# Altium schematic symbol library capacitors.SchLib: 28 symbols
Pins are listed as number, name and electrical type; pins without a type are passive.

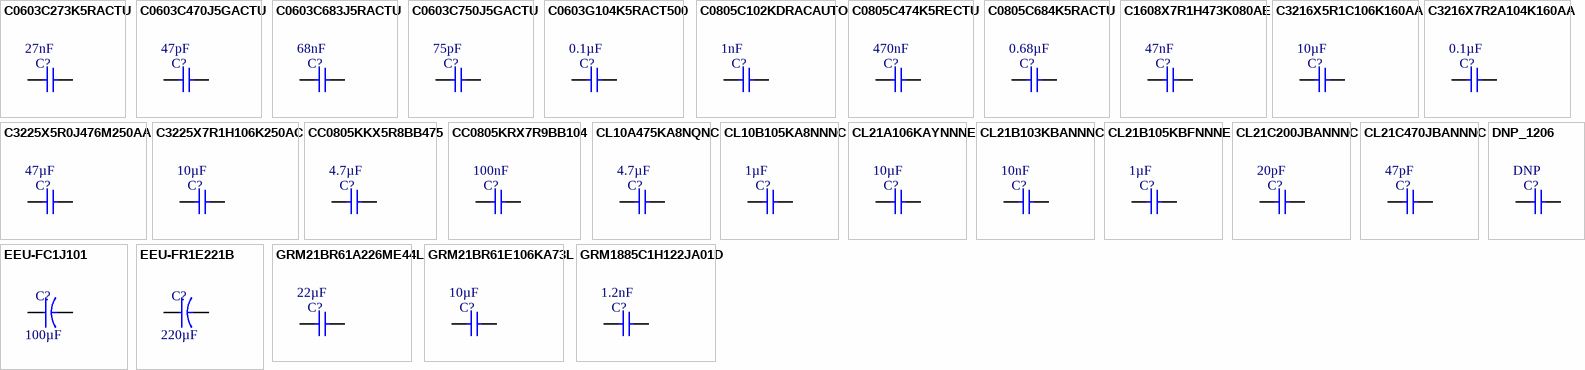
[diagram p0: symbols C0603C273K5RACTU to GRM1885C1H122JA01D]

## C0603C273K5RACTU
designator C?  value 27nF  (hidden comment: *)
Ceramic Capacitor, Multilayer, Ceramic, 50V, 10% +Tol, 10% -Tol, X7R, 15% TC, 0.027uF, Surface Mount, 0603; Manufacturer: KEMET; Manufacturer Part Number: C0603C273K5RACTU; Supplier: DigiKey; Supplier Part Number: 399-C0603C273K5RACTUCT-ND; Package/Case: 0603 (1608 Metric)
footprint CAPC1608 (SMD 0603 (1608 Metric))
pins: 1, 2

## C0603C470J5GACTU
designator C?  value 47pF  (hidden comment: *)
Ceramic Capacitor, Multilayer, Ceramic, 50V, 5% +Tol, 5% -Tol, C0G, 30ppm/Cel TC, 0.000047uF, Surface Mount, 0603; Manufacturer: KEMET; Manufacturer Part Number: C0603C470J5GACTU; Supplier: DigiKey; Supplier Part Number: 399-C0603C470J5GACTUCT-ND; Package/Case: 0603 (1608 Metric)
footprint CAPC1608 (SMD 0603 (1608 Metric))
pins: 1, 2

## C0603C683J5RACTU
designator C?  value 68nF  (hidden comment: *)
Ceramic Capacitor, Multilayer, Ceramic, 50V, 5% +Tol, 5% -Tol, X7R, 15% TC, 0.068uF, Surface Mount, 0603; Manufacturer: KEMET; Manufacturer Part Number: C0603C683J5RACTU; Supplier: DigiKey; Supplier Part Number: 399-C0603C683J5RACTUCT-ND; Package/Case: 0603 (1608 Metric)
footprint CAPC1608 (SMD 0603 (1608 Metric))
pins: 1, 2

## C0603C750J5GACTU
designator C?  value 75pF  (hidden comment: *)
Multilayer Ceramic Capacitor, C Series, 75 Pf, - 5%, C0g / Np0, 50 V, 0603 [1608 Metric]; Manufacturer: KEMET; Manufacturer Part Number: C0603C750J5GACTU; Supplier: DigiKey; Supplier Part Number: 399-C0603C750J5GACTUCT-ND; Package/Case: 0603 (1608 Metric)
footprint CAPC1608 (SMD 0603 (1608 Metric))
pins: 1, 2

## C0603G104K5RACT500
designator C?  value 0.1µF  (hidden comment: *)
0603 (1608METRIC) Ceramic Capacitor SMD Indust X7R HT175C 50V 0.1MUF ±10% X7R; Manufacturer: KEMET; Manufacturer Part Number: C0603G104K5RACT500; Supplier: DigiKey; Supplier Part Number: 399-13261-1-ND; Package/Case: 0603 (1608 Metric)
footprint CAPC1608 (SMD 0603 (1608 Metric))
pins: 1, 2

## C0805C102KDRACAUTO
designator C?  value 1nF  (hidden comment: *)
Multilayer Ceramic Capacitors MLCC - SMD/SMT 1kV 1000pF X7R 0805 10% AEC-Q200; Manufacturer: KEMET; Manufacturer Part Number: C0805C102KDRACAUTO; Supplier: DigiKey; Supplier Part Number: 399-16643-1-ND; Package/Case: 0805 (2012 Metric)
footprint CAPC2012 (SMD 0805 (2012 Metric))
pins: 1, 2

## C0805C474K5RECTU
designator C?  value 470nF  (hidden comment: *)
Ceramic Capacitor, Multilayer, Ceramic, 50V, 10% +Tol, 10% -Tol, X7R, 15% TC, 0.47uF, Surface Mount, 0805; Manufacturer: KEMET; Manufacturer Part Number: C0805C474K5RECTU; Supplier: DigiKey; Supplier Part Number: 399-C0805C474K5RECTUCT-ND; Package/Case: 0805 (2012 Metric)
footprint CAPC2012 (SMD 0805 (2012 Metric))
pins: 1, 2

## C0805C684K5RACTU
designator C?  value 0.68µF  (hidden comment: *)
0805 C 680nF Ceramic Multilayer Capacitor, 50 VDC, +125degC, X7R Dielec, +/-10%; Manufacturer: KEMET; Manufacturer Part Number: C0805C684K5RACTU; Supplier: DigiKey; Supplier Part Number: 399-C0805C684K5RACTUCT-ND; Package/Case: 0805 (2012 Metric)
footprint CAPC2012 (SMD 0805 (2012 Metric))
pins: 1, 2

## C1608X7R1H473K080AE
designator C?  value 47nF  (hidden comment: *)
50V 47nF X7R 卤10% 0603 Multilayer Ceramic Capacitors MLCC - SMD/SMT ROHS; Manufacturer: TDK; Manufacturer Part Number: C1608X7R1H473K080AE; Supplier: DigiKey; Supplier Part Number: 445-173621-1-ND; Package/Case: 0603 (1608 Metric)
footprint CAPC1608 (SMD 0603 (1608 Metric))
pins: 1, 2

## C3216X5R1C106K160AA
designator C?  value 10µF  (hidden comment: *)
Multilayer Ceramic Capacitors MLCC – SMD/SMT; TDK; C3216X5R1C106K160AA; 10 µF; 1206; 16 V; 16 V; Supplier: DigiKey; Supplier Part Number: 445-4052-1-ND; Manufacturer: TDK; Manufacturer Part Number: C3216X5R1C106K160AA; Package/Case: 1206 (3216 Metric)
footprint CAPC3216 (SMD 1206 (3216 Metric))
pins: 1, 2

## C3216X7R2A104K160AA
designator C?  value 0.1µF  (hidden comment: *)
Multilayer Ceramic Capacitor, C Series, 0.1 - F, - 10%, X7R, 100 V, 1206 [3216 Metric]; Manufacturer: TDK; Manufacturer Part Number: C3216X7R2A104K160AA; Supplier: DigiKey; Supplier Part Number: 445-1377-1-ND; Package/Case: 1206 (3216 Metric)
footprint CAPC3216 (SMD 1206 (3216 Metric))
pins: 1, 2

## C3225X5R0J476M250AA
designator C?  value 47µF  (hidden comment: *)
Ceramic Capacitor, Multilayer, Ceramic, 50V, 10% +Tol, 10% -Tol, X7R, 15% TC, 10uF, Surface Mount, 1210; Manufacturer: TDK; Manufacturer Part Number: C3225X5R0J476M250AA; Supplier: DigiKey; Supplier Part Number: 445-1405-1-ND; Package/Case: 1210 (3225 Metric)
footprint CAPC3225 (SMD 1210 (3225 Metric))
pins: 1, 2

## C3225X7R1H106K250AC
designator C?  value 10µF  (hidden comment: *)
Ceramic Capacitor, Multilayer, Ceramic, 50V, 10% +Tol, 10% -Tol, X7R, 15% TC, 10uF, Surface Mount, 1210; Manufacturer: TDK; Manufacturer Part Number: C3225X7R1H106K250AC; Supplier: DigiKey; Supplier Part Number: 445-C3225X7R1H106K250ACCT-ND; Package/Case: 1210 (3225 Metric)
footprint CAPC3225 (SMD 1210 (3225 Metric))
pins: 1, 2

## CC0805KKX5R8BB475
designator C?  value 4.7µF  (hidden comment: *)
25V 4.7uF X5R ±10% 0805 Multilayer Ceramic Capacitors MLCC - SMD/SMT ROHS; Manufacturer: YAGEO; Manufacturer Part Number: CC0805KKX5R8BB475; Supplier: DigiKey; Supplier Part Number: 311-1871-1-ND; Package/Case: 0805 (2012 Metric)
footprint CAPC2012 (SMD 0805 (2012 Metric))
pins: 1, 2

## CC0805KRX7R9BB104
designator C?  value 100nF  (hidden comment: *)
50V 100nF X7R ±10% 0805 Multilayer Ceramic Capacitors MLCC - SMD/SMT ROHS; Manufacturer: YAGEO; Manufacturer Part Number: CC0805KRX7R9BB104; Supplier: DigiKey; Supplier Part Number: 311-1140-1-ND; Package/Case: 0805 (2012 Metric)
footprint CAPC2012 (SMD 0805 (2012 Metric))
pins: 1, 2

## CL10A475KA8NQNC
designator C?  value 4.7µF  (hidden comment: *)
4.7uF ±10% 25V Ceramic Capacitor X5R 0603; Manufacturer: Samsung Electro-Mechanics; Manufacturer Part Number: CL10A475KA8NQNC; Supplier: LCSC; Supplier Part Number: C69335; Package/Case: 0603 (1608 Metric)
footprint CAPC1608 (SMD 0603 (1608 Metric))
pins: 1, 2

## CL10B105KA8NNNC
designator C?  value 1µF  (hidden comment: *)
25V 1uF X7R ±10% 0603 Multilayer Ceramic Capacitors MLCC - SMD/SMT ROHS; Manufacturer: Samsung Electro-Mechanics; Manufacturer Part Number: CL10B105KA8NNNC; Supplier: LCSC; Supplier Part Number: C29936; Package/Case: 0603 (1608 Metric)
footprint CAPC1608 (SMD 0603 (1608 Metric))
pins: 1, 2

## CL21A106KAYNNNE
designator C?  value 10µF  (hidden comment: *)
25V 10uF X5R ±10% 0805 Multilayer Ceramic Capacitors MLCC - SMD/SMT ROHS; Manufacturer: Samsung Electro-Mechanics; Manufacturer Part Number: CL21A106KAYNNNE; Supplier: LCSC; Supplier Part Number: C15850; Package/Case: 0805 (2012 Metric)
footprint CAPC2012 (SMD 0805 (2012 Metric))
pins: 1, 2

## CL21B103KBANNNC
designator C?  value 10nF  (hidden comment: *)
50V 10nF X7R ±10% 0805 Multilayer Ceramic Capacitors MLCC - SMD/SMT ROH; Manufacturer: Samsung Electro-Mechanics; Manufacturer Part Number: CL21B103KBANNNC; Supplier: DigiKey; Supplier Part Number: 1276-1015-1-ND; Package/Case: 0805 (2012 Metric)
footprint CAPC2012 (SMD 0805 (2012 Metric))
pins: 1, 2

## CL21B105KBFNNNE
designator C?  value 1µF  (hidden comment: *)
50V 1uF X7R ±10% 0805 Multilayer Ceramic Capacitors MLCC - SMD/SMT ROHS; Manufacturer: Samsung Electro-Mechanics; Manufacturer Part Number: CL21B105KBFNNNE; Supplier: DigiKey; Supplier Part Number: 1276-1029-1-ND; Package/Case: 0805 (2012 Metric)
footprint CAPC2012 (SMD 0805 (2012 Metric))
pins: 1, 2

## CL21C200JBANNNC
designator C?  value 20pF  (hidden comment: *)
50V 20pF C0G ±5% 0805 Multilayer Ceramic Capacitors MLCC - SMD/SMT ROHS; Manufacturer: Samsung Electro-Mechanics; Manufacturer Part Number: CL21C200JBANNNC; Supplier: LCSC; Supplier Part Number: C1798; Package/Case: 0805 (2012 Metric)
footprint CAPC2012 (SMD 0805 (2012 Metric))
pins: 1, 2

## CL21C470JBANNNC
designator C?  value 47pF  (hidden comment: *)
50V 47pF C0G ±5% 0805 Multilayer Ceramic Capacitors MLCC - SMD/SMT ROHS; Manufacturer: Samsung Electro-Mechanics; Manufacturer Part Number: CL21C470JBANNNC; Supplier: LCSC; Supplier Part Number: C14857; Package/Case: 0805 (2012 Metric)
footprint CAPC2012 (SMD 0805 (2012 Metric))
pins: 1, 2

## DNP_1206
designator C?  value DNP  (hidden comment: *)  (no BOM)
Do Not Populate 1206 (3216 Metric)
footprint CAPC3216 (SMD 1206 (3216 Metric))
pins: 1, 2

## EEU-FC1J101
designator C?  value 100µF  (hidden comment: *)
Panasonic EEUFC1J101LE - Aluminum Electrolytic Capacitors (Radial Lead Type); Manufacturer: Panasonic Electronic Components; Manufacturer Part Number: EEU-FC1J101; Supplier: DigiKey; Supplier Part Number: P10343-ND; Package/Case: Radial, Can
footprint CAPPRD500W60D1000H1250
pins: N, P

## EEU-FR1E221B
designator C?  value 220µF  (hidden comment: *)
Radial Can ALUMINUM ELECTROLYTIC CAPACITOR FR 25V 220muF ±20% 0.315Dia 8.00mm; Manufacturer: Panasonic; Manufacturer Part Number: EEU-FR1E221B; Supplier: DigiKey; Supplier Part Number: P124224TB-ND; Package/Case: Radial, Can
footprint CAPPRD500W60D800H1150
pins: N, P

## GRM21BR61A226ME44L
designator C?  value 22µF  (hidden comment: *)
0805 22 uF 10 V ±20% Tolerance X5R Multilayer Ceramic Chip Capacitor; Manufacturer: Murata Electronics; Manufacturer Part Number: GRM21BR61A226ME44L; Supplier: DigiKey; Supplier Part Number: 490-10746-1-ND; Package/Case: 0805 (2012 Metric)
footprint CAPC2012 (SMD 0805 (2012 Metric))
pins: 1, 2

## GRM21BR61E106KA73L
designator C?  value 10µF  (hidden comment: *)
25V 10uF X5R ±10% 0805 Multilayer Ceramic Capacitors MLCC - SMD/SMT ROHS; Manufacturer: Murata Electronics; Manufacturer Part Number: GRM21BR61E106KA73L; Supplier: DigiKey; Supplier Part Number: 490-5523-1-ND; Package/Case: 0805 (2012 Metric)
footprint CAPC2012 (SMD 0805 (2012 Metric))
pins: 1, 2

## GRM1885C1H122JA01D
designator C?  value 1.2nF  (hidden comment: *)
50V 1.2nF C0G ±5% 0603 Multilayer Ceramic Capacitors MLCC - SMD/SMT ROHS; Manufacturer: Murata Electronics; Manufacturer Part Number: GRM1885C1H122JA01D; Supplier: DigiKey; Supplier Part Number: 490-1453-1-ND; Package/Case: 0603 (1608 Metric)
footprint CAPC1608 (SMD 0603 (1608 Metric))
pins: 1, 2